# EAGLE library part STM32-BLUEPILL (library Arduino)
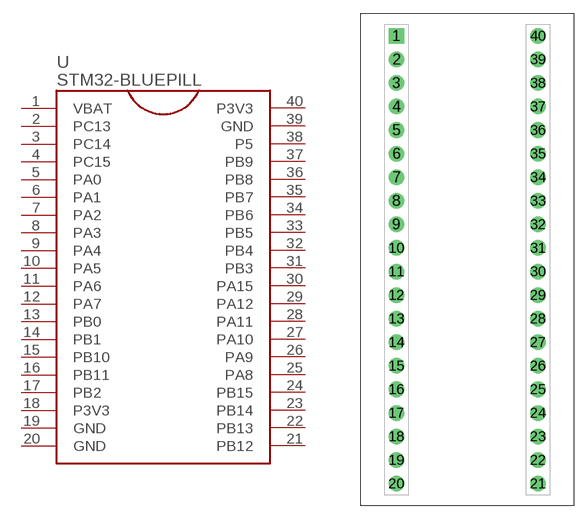
[diagram p4: symbol with the pads of BLUEPILL; footprint BLUEPILL]

Designator prefix -

## STM32-BLUEPILL  [BLUEPILL]
1  VBAT  pwr
2  PC13
3  PC14
4  PC15
5  PA0
6  PA1
7  PA2
8  PA3
9  PA4
10  PA5
11  PA6
12  PA7
13  PB0
14  PB1
15  PB10
16  PB11
17  PB2
18  P3V3  pwr
19  GND  pwr
20  GND  pwr
21  PB12
22  PB13
23  PB14
24  PB15
25  PA8
26  PA9
27  PA10
28  PA11
29  PA12
30  PA15
31  PB3
32  PB4
33  PB5
34  PB6
35  PB7
36  PB8
37  PB9
38  P5
39  GND  pwr
40  P3V3  pwr

## Footprint BLUEPILL (pad centres in mm)
drill 0.914 pad 1.676 square: 1 -7.62,24.13
drill 0.914 pad 1.676: 2 -7.62,21.59; 3 -7.62,19.05; 4 -7.62,16.51; 5 -7.62,13.97; 6 -7.62,11.43; 7 -7.62,8.89; 8 -7.62,6.35; 9 -7.62,3.81; 10 -7.62,1.27; 11 -7.62,-1.27; 12 -7.62,-3.81; 13 -7.62,-6.35; 14 -7.62,-8.89; 15 -7.62,-11.43; 16 -7.62,-13.97; 17 -7.62,-16.51; 18 -7.62,-19.05; 19 -7.62,-21.59; 20 -7.62,-24.13; 21 7.62,-24.13; 22 7.62,-21.59; 23 7.62,-19.05; 24 7.62,-16.51; 25 7.62,-13.97; 26 7.62,-11.43; 27 7.62,-8.89; 28 7.62,-6.35; 29 7.62,-3.81; 30 7.62,-1.27; 31 7.62,1.27; 32 7.62,3.81; 33 7.62,6.35; 34 7.62,8.89; 35 7.62,11.43; 36 7.62,13.97; 37 7.62,16.51; 38 7.62,19.05; 39 7.62,21.59; 40 7.62,24.13